# EAGLE library part IT530M (library X893)
IT530M Fastrax miniature Multi-GNSS module Datasheet <http://www.u-blox.com/images/downloads/Product_Docs/IT530M_DataSheet_%28FTX-HW-12006%29.pdf>
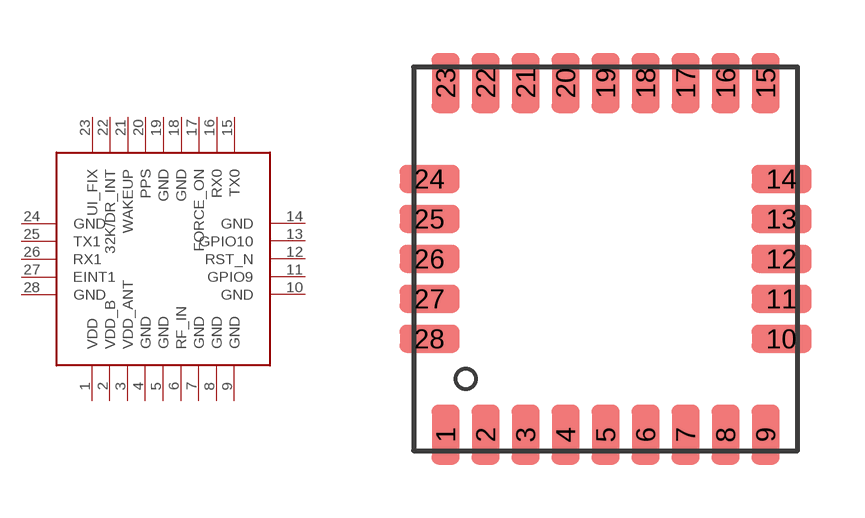
[diagram p211: symbol with the pads of IT530M; footprint IT530M]

Designator prefix U

## IT530M  [IT530M]
1  VDD  pwr
2  VDD_B  pwr
3  VDD_ANT  pwr
4  GND  pwr
5  GND  pwr
6  RF_IN  pas
7  GND  pwr
8  GND  pwr
9  GND  pwr
10  GND  pwr
11  GPIO9
12  RST_N  in
13  GPIO10
14  GND
15  TX0  out
16  RX0  in
17  FORCE_ON  in
18  GND  pwr
19  GND  pwr
20  PPS  out
21  WAKEUP
22  32K/DR_INT
23  UI_FIX  out
24  GND  pwr
25  TX1  out
26  RX1  in
27  EINT1  in
28  GND  pwr

## Footprint IT530M (pad centres in mm)
smd 0.7 x 1.5: 1 -4,-4.4; 2 -3,-4.4; 3 -2,-4.4; 4 -1,-4.4; 5 0,-4.4; 6 1,-4.4; 7 2,-4.4; 8 3,-4.4; 9 4,-4.4; 15 4,4.4; 16 3,4.4; 17 2,4.4; 18 1,4.4; 19 0,4.4; 20 -1,4.4; 21 -2,4.4; 22 -3,4.4; 23 -4,4.4
smd 1.5 x 0.7: 10 4.4,-2; 11 4.4,-1; 12 4.4,0; 13 4.4,1; 14 4.4,2; 24 -4.4,2; 25 -4.4,1; 26 -4.4,0; 27 -4.4,-1; 28 -4.4,-2